# Altium integrated library NUP2105L.IntLib: 1 symbol
Pins are listed as number, name and electrical type; pins without a type are passive.

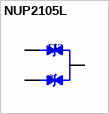
[diagram p0: symbol NUP2105L]

## NUP2105L
designator D?
ESD, SOT-23, 0.1ÂµA, 24V, Unidir; MF: Diotec Semiconductor; MP: NUP2105L; SnapEDA_Link: https://www.snapeda.com/parts/NUP2105L/Diotec/view-part/?ref=snap; Package: SOT-23 Diotec; Value: *; Check_prices: https://www.snapeda.com/parts/NUP2105L/Diotec/view-part/?ref=eda
footprint SOT95P240X120-3N
pins: 1, 2, 3